# Altium schematic symbol library CDBC5150-HF.SchLib: 1 symbol
Pins are listed as number, name and electrical type; pins without a type are passive.

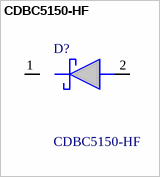
[diagram p0: symbol CDBC5150-HF]

## CDBC5150-HF
designator D?
Schottky Diodes & Rectifiers 150V, 5A; Manufacturer_Name: Comchip Technology; Geometry.Height: 2.9mm; Mouser Part Number: 750-CDBC5150-HF; Mouser Price/Stock: https://www.mouser.co.uk/ProductDetail/Comchip-Technology/CDBC5150-HF?qs=XEIV%2Fho1H6foKmZ1W%252B1qRQ%3D%3D; Manufacturer_Part_Number: CDBC5150-HF; Datasheet Link: https://www.mouser.in/datasheet/2/80/CDBC5150_HF_Thru913245__CDBC5200_HF_RevB-2504761.pdf
footprint DIOM8059X290N
pins: 1 K, 2 A